# Altium integrated library NC7SZ126P5X.IntLib: 1 symbol
Pins are listed as number, name and electrical type; pins without a type are passive.

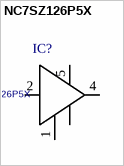
[diagram p0: symbol NC7SZ126P5X]

## NC7SZ126P5X
designator IC?
ID: NC7SZ126P5X; PDF: http://www.fairchildsemi.com/ds/NC/NC7SZ126.pdf; BUY_LINK: http://www.digikey.com/product-detail/en/NC7SZ126P5X/NC7SZ126P5XCT-ND/673395; PRICE: 0.34000
footprint SC70-5
pins: 1 oe, 2 in, 3 gnd, 4 out, 5 vcc